# Altium footprint library LCD2004.PcbLib: 1 footprints
Each footprint in its own frame and in the unit in brackets; x right, y up, seen from the top. Pads: shape width x height; smd on the part's side, far side on the other; paste and mask are expansions set on the pad; w line width, h text height; cw(c..) or ccw(c..) is an arc to the next point about the centre after c.
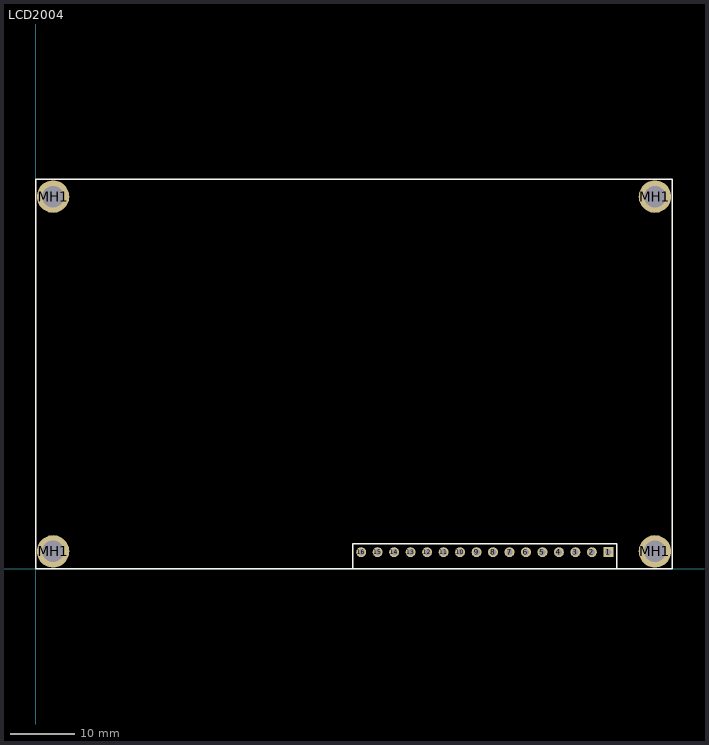
[diagram p0: the footprint, top view; thin cyan lines are the x and y axes]

## LCD2004 [mil]
pads (20):
  rect 60x60 hole 39.37: 1(3473.98,100)
  round 60 hole 39.37: 2(3373.98,100) 3(3273.98,100) 4(3173.98,100) 5(3073.98,100) 6(2973.98,100) 7(2873.98,100) 8(2773.98,100) 9(2673.98,100) 10(2573.98,100) 11(2473.98,100) 12(2373.98,100) 13(2273.98,100) 14(2173.98,100) 15(2073.98,100) 16(1973.98,100)
  round 196.85 hole 132.01 unplated: MH1(105,105) MH1(105,2256.97) MH1(3755.98,105) MH1(3755.98,2256.97)
Top Overlay:
  lines w7.87: 1923.98,1.02 1923.98,150 3523.98,150 3523.98,1.02 ; 0,0 3860.98,0 3860.98,2361.97 0,2361.97 0,0
3D body "LCD Display 2004.stp": height 836.2, standoff 298.7, extent 0,0 3861,2360